# Altium integrated library AMP D Subminiature 050 Series.IntLib: 275 symbols (part 1 of 7)
Pins are listed as number, name and electrical type; pins without a type are passive.

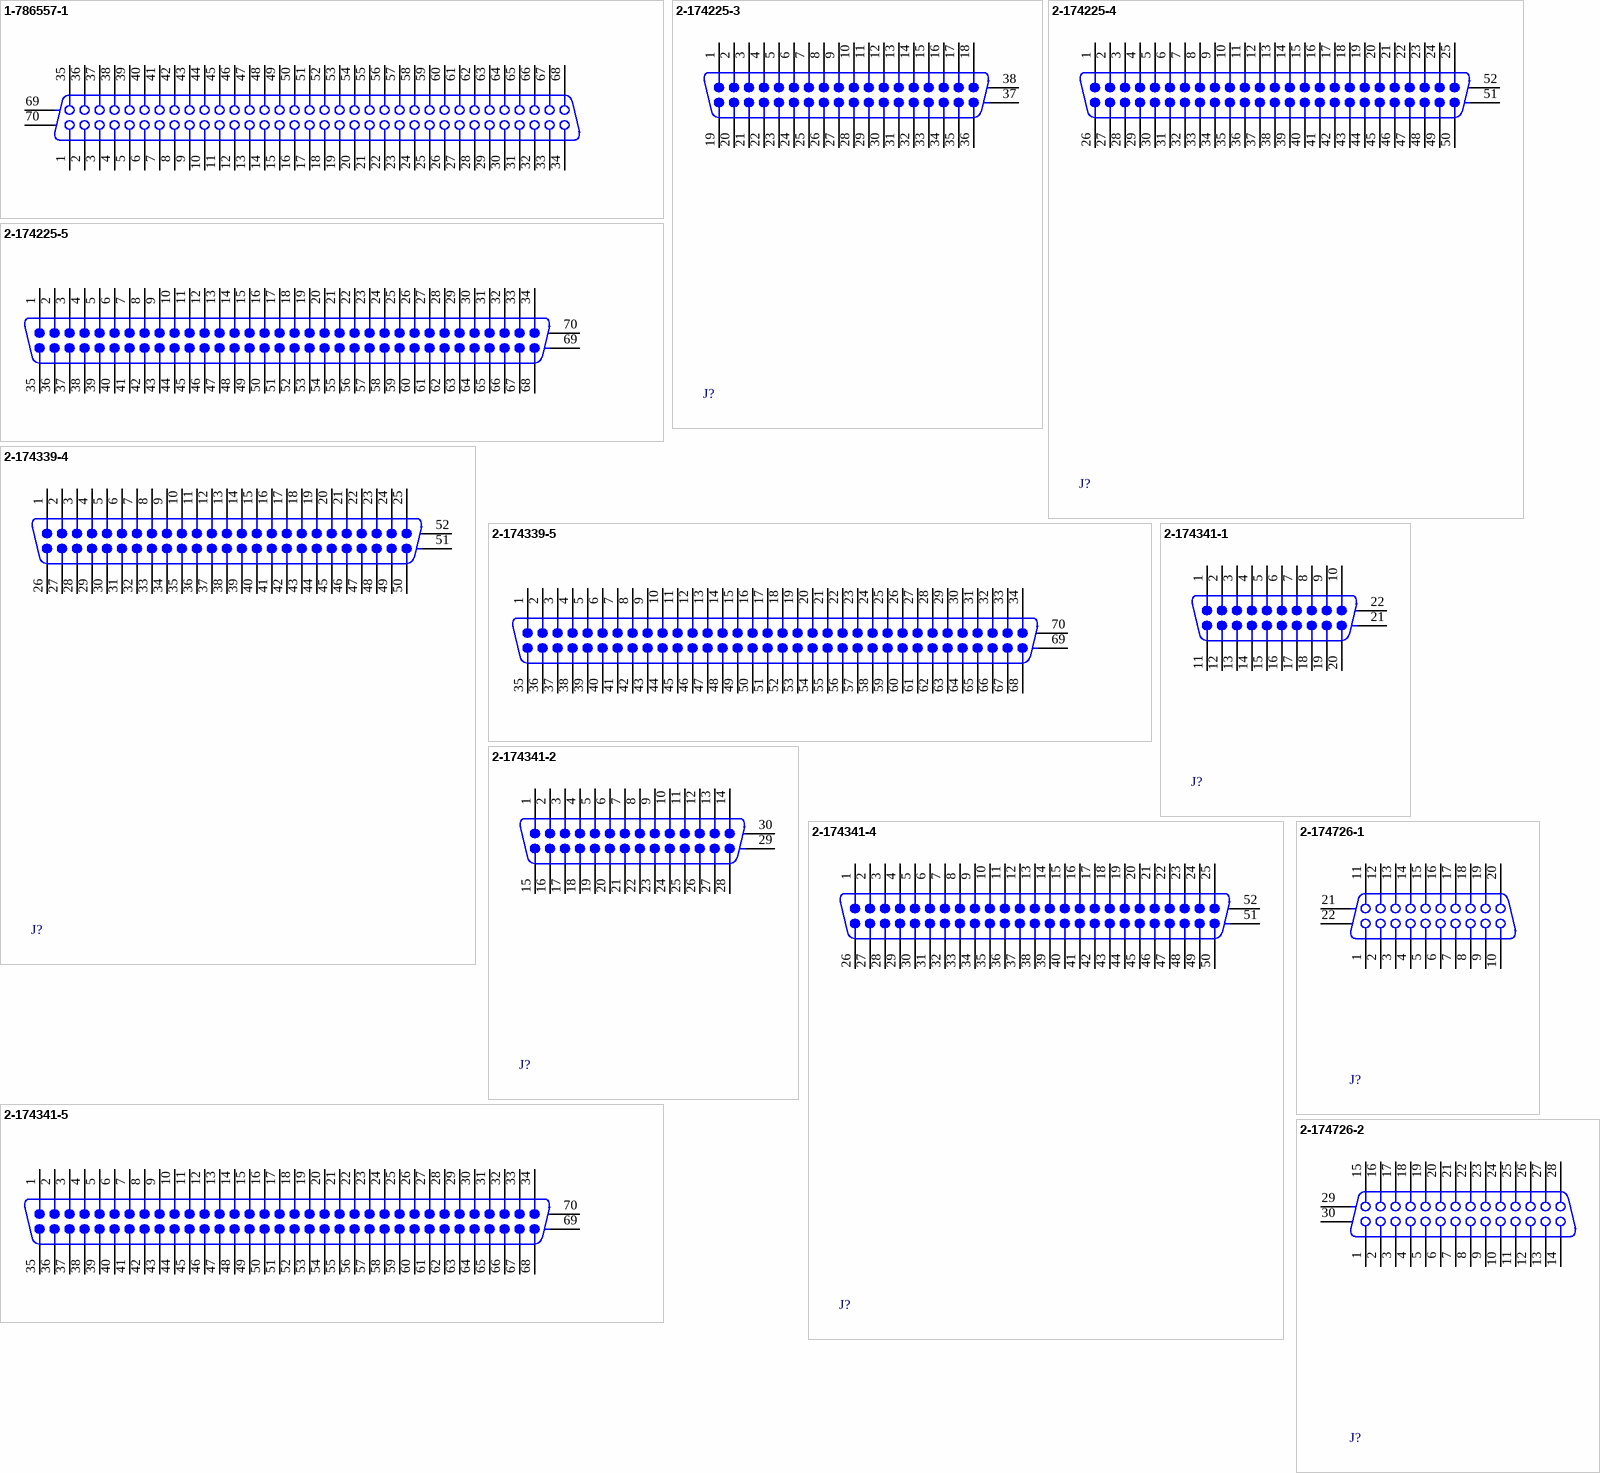
[diagram p0: symbols 1-786557-1 to 2-174726-2]

## 1-786557-1
designator J?
Receptacle Assembly, Shielded, Vertical, Flat top, Action Pin for .125 to .200 Thick Bd, AMPLIMITE; Positions: 68; Note: Series III; Gender: Receptacle Header; Note: With Mating Lock; PCB_Layout: Complies with manufacturer's recommendation.; DrillSize: Corresponds to nominal value.; Published: 17-Jul-2002; DatasheetDocument: 13-Jan-2000; PackageDocument: 13-Jan-2000; PackageReference: 1-786557-1; Publisher: Altium Limited; Orientation: Vertical; ComponentLink1Description: Manufacturer Link; ComponentLink1URL: http://www.tycoelectronics.com/; ComponentLink2Description: Packaging Specification; ComponentLink2URL: http://ecommas.tycoelectronics.com/commerce/DocumentDelivery/DDEController?Action=showdoc&DocId=Customer+Drawing%7F786557%7FK%7Fpdf%7FEnglish%7FENG_CD_786557_K.pdf
footprint 1-786557-1 (Connector; D Subminiature 050 Series; 68 Position; Vertical)
signal-integrity model D Subminiature
pins: 1, 2, 3, 4, 5, 6, 7, 8, 9, 10, 11, 12, 13, 14, 15, 16, 17, 18, 19, 20, 21, 22, 23, 24, 25, 26, 27, 28, 29, 30, 31, 32, 33, 34, 35, 36, 37, 38, 39, 40, 41, 42, 43, 44, 45, 46, 47, 48, 49, 50, 51, 52, 53, 54, 55, 56, 57, 58, 59, 60, 61, 62, 63, 64, 65, 66, 67, 68, 69 MH1, 70 MH2

## 2-174225-3
designator J?
Cap Header, Right Angle /M2.5 AMPLIMITE 050 Series II; Positions: 36; Gender: Plug Header; Note: With Mating Lock; PCB_Layout: Complies with manufacturer's recommendation.; DrillSize: Corresponds to nominal value.; Published: 17-Jul-2002; DatasheetDocument: May-1991; PackageDocument: 23-May-1991; PackageReference: 2-174225-3; Publisher: Altium Limited; Orientation: Right Angle; Note: Series II; ComponentLink1Description: Manufacturer Link; ComponentLink1URL: http://www.tycoelectronics.com/; ComponentLink2Description: Packaging Specification; ComponentLink2URL: http://ecommas.tycoelectronics.com/commerce/DocumentDelivery/DDEController?Action=showdoc&DocId=Customer+Drawing%7F174225%7FD%7Fpdf%7FJapanese%7FJPN_CD_174225_D.pdf; ComponentLink3Description: Iges Model; ComponentLink3URL: http://catalog.tycoelectronics.com/TE/docs/cadgeo/0/91/40190.tar.gz
footprint 2-174225-3 (Connector; D Subminiature 050 Series; 36 Position; Right Angle)
signal-integrity model D Subminiature
pins: 1, 2, 3, 4, 5, 6, 7, 8, 9, 10, 11, 12, 13, 14, 15, 16, 17, 18, 19, 20, 21, 22, 23, 24, 25, 26, 27, 28, 29, 30, 31, 32, 33, 34, 35, 36, 37 MH1, 38 MH2

## 2-174225-4
designator J?
Cap Header, Right Angle /M2.5 AMPLIMITE 050 Series II; Positions: 50; Gender: Plug Header; Note: With Mating Lock; PCB_Layout: Complies with manufacturer's recommendation.; DrillSize: Corresponds to nominal value.; Published: 17-Jul-2002; DatasheetDocument: May-1991; PackageDocument: 23-May-1991; PackageReference: 2-174225-4; Publisher: Altium Limited; Orientation: Right Angle; Note: Series II; ComponentLink1Description: Manufacturer Link; ComponentLink1URL: http://www.tycoelectronics.com/; ComponentLink2Description: Packaging Specification; ComponentLink2URL: http://ecommas.tycoelectronics.com/commerce/DocumentDelivery/DDEController?Action=showdoc&DocId=Customer+Drawing%7F174225%7FD%7Fpdf%7FJapanese%7FJPN_CD_174225_D.pdf; ComponentLink3Description: Iges Model; ComponentLink3URL: http://catalog.tycoelectronics.com/TE/docs/cadgeo/0/91/40190.tar.gz
footprint 2-174225-4 (Connector; D Subminiature 050 Series; 50 Position; Right Angle)
signal-integrity model D Subminiature
pins: 1, 2, 3, 4, 5, 6, 7, 8, 9, 10, 11, 12, 13, 14, 15, 16, 17, 18, 19, 20, 21, 22, 23, 24, 25, 26, 27, 28, 29, 30, 31, 32, 33, 34, 35, 36, 37, 38, 39, 40, 41, 42, 43, 44, 45, 46, 47, 48, 49, 50, 51 MH1, 52 MH2

## 2-174225-5
designator J?
Cap Header, Right Angle /M2.5 AMPLIMITE 050 Series II; Positions: 68; Gender: Plug Header; Note: With Mating Lock; PCB_Layout: Complies with manufacturer's recommendation.; DrillSize: Corresponds to nominal value.; Published: 17-Jul-2002; DatasheetDocument: May-1991; PackageDocument: 23-May-1991; PackageReference: 2-174225-5; Publisher: Altium Limited; Orientation: Right Angle; Note: Series II; ComponentLink1Description: Manufacturer Link; ComponentLink1URL: http://www.tycoelectronics.com/; ComponentLink2Description: Packaging Specification; ComponentLink2URL: http://ecommas.tycoelectronics.com/commerce/DocumentDelivery/DDEController?Action=showdoc&DocId=Customer+Drawing%7F174225%7FD%7Fpdf%7FJapanese%7FJPN_CD_174225_D.pdf; ComponentLink3Description: Iges Model; ComponentLink3URL: http://catalog.tycoelectronics.com/TE/docs/cadgeo/0/91/40190.tar.gz
footprint 2-174225-5 (Connector; D Subminiature 050 Series; 68 Position; Right Angle)
signal-integrity model D Subminiature
pins: 1, 2, 3, 4, 5, 6, 7, 8, 9, 10, 11, 12, 13, 14, 15, 16, 17, 18, 19, 20, 21, 22, 23, 24, 25, 26, 27, 28, 29, 30, 31, 32, 33, 34, 35, 36, 37, 38, 39, 40, 41, 42, 43, 44, 45, 46, 47, 48, 49, 50, 51, 52, 53, 54, 55, 56, 57, 58, 59, 60, 61, 62, 63, 64, 65, 66, 67, 68, 69 MH1, 70 MH2

## 2-174339-4
designator J?
Cap Header, Vertical /M2.5 AMPLIMITE 050 Series II; Positions: 50; Gender: Plug Header; Note: Without Mating Lock; PCB_Layout: Complies with manufacturer's recommendation.; DrillSize: Corresponds to nominal value.; Published: 17-Jul-2002; LatestRevisionDate: 21-Nov-2002; LatestRevisionNote: PCB Footprint sequence changed.; DatasheetDocument: May-1991; PackageDocument: 23-May-1991; PackageReference: 2-174339-4; Publisher: Altium Limited; Orientation: Vertical; Note: Series II; ComponentLink1Description: Manufacturer Link; ComponentLink1URL: http://www.tycoelectronics.com/; ComponentLink2Description: Packaging Specification; ComponentLink2URL: http://ecommas.tycoelectronics.com/commerce/DocumentDelivery/DDEController?Action=showdoc&DocId=Customer+Drawing%7F174339%7FC%7Fpdf%7FEnglish%7FENG_CD_174339_C.pdf; ComponentLink3Description: Iges Model; ComponentLink3URL: http://catalog.tycoelectronics.com/TE/docs/cadgeo/2/45/35542.tar.gz
footprint 2-174339-4 (Connector; D Subminiature 050 Series; 50 Position; Vertical)
signal-integrity model D Subminiature
pins: 1, 2, 3, 4, 5, 6, 7, 8, 9, 10, 11, 12, 13, 14, 15, 16, 17, 18, 19, 20, 21, 22, 23, 24, 25, 26, 27, 28, 29, 30, 31, 32, 33, 34, 35, 36, 37, 38, 39, 40, 41, 42, 43, 44, 45, 46, 47, 48, 49, 50, 51 MH1, 52 MH2

## 2-174339-5
designator J?
Cap Header, Vertical /M2.5 AMPLIMITE 050 Series II; Positions: 68; Gender: Plug Header; Note: Without Mating Lock; PCB_Layout: Complies with manufacturer's recommendation.; DrillSize: Corresponds to nominal value.; Published: 17-Jul-2002; LatestRevisionDate: 21-Nov-2002; LatestRevisionNote: PCB Footprint sequence changed.; DatasheetDocument: May-1991; PackageDocument: 23-May-1991; PackageReference: 2-174339-5; Publisher: Altium Limited; Orientation: Vertical; Note: Series II; ComponentLink1Description: Manufacturer Link; ComponentLink1URL: http://www.tycoelectronics.com/; ComponentLink2Description: Packaging Specification; ComponentLink2URL: http://ecommas.tycoelectronics.com/commerce/DocumentDelivery/DDEController?Action=showdoc&DocId=Customer+Drawing%7F174339%7FC%7Fpdf%7FEnglish%7FENG_CD_174339_C.pdf; ComponentLink3Description: Iges Model; ComponentLink3URL: http://catalog.tycoelectronics.com/TE/docs/cadgeo/2/45/35542.tar.gz
footprint 2-174339-5 (Connector; D Subminiature 050 Series; 68 Position; Vertical)
signal-integrity model D Subminiature
pins: 1, 2, 3, 4, 5, 6, 7, 8, 9, 10, 11, 12, 13, 14, 15, 16, 17, 18, 19, 20, 21, 22, 23, 24, 25, 26, 27, 28, 29, 30, 31, 32, 33, 34, 35, 36, 37, 38, 39, 40, 41, 42, 43, 44, 45, 46, 47, 48, 49, 50, 51, 52, 53, 54, 55, 56, 57, 58, 59, 60, 61, 62, 63, 64, 65, 66, 67, 68, 69 MH1, 70 MH2

## 2-174341-1
designator J?
Position Header, Horizontal, with Retention Leg AMPLIMITE 050 Series Il Connector. Type B; Positions: 20; Note: Series II; Gender: Plug Header; Note: With Mating Lock; PCB_Layout: Complies with manufacturer's recommendation.; DrillSize: Corresponds to nominal value.; Published: 17-Jul-2002; DatasheetDocument: May-1991; PackageDocument: 23-May-1991; PackageReference: 2-174341-1; Publisher: Altium Limited; Orientation: Right Angle; ComponentLink1Description: Manufacturer Link; ComponentLink1URL: http://www.tycoelectronics.com/; ComponentLink2Description: Packaging Specification; ComponentLink2URL: http://ecommas.tycoelectronics.com/commerce/DocumentDelivery/DDEController?Action=ecatdrawselcritrslt&Part=174341-1
footprint 2-174341-1 (Connector; D Subminiature 050 Series; 20 Position; Right Angle)
signal-integrity model D Subminiature
pins: 1, 2, 3, 4, 5, 6, 7, 8, 9, 10, 11, 12, 13, 14, 15, 16, 17, 18, 19, 20, 21 MH1, 22 MH2

## 2-174341-2
designator J?
Position Header, Horizontal, with Retention Leg AMPLIMITE 050 Series Il Connector. Type B; Positions: 28; Note: Series II; Gender: Plug Header; Note: With Mating Lock; PCB_Layout: Complies with manufacturer's recommendation.; DrillSize: Corresponds to nominal value.; Published: 17-Jul-2002; DatasheetDocument: May-1991; PackageDocument: 23-May-1991; PackageReference: 2-174341-2; Publisher: Altium Limited; Orientation: Right Angle; ComponentLink1Description: Manufacturer Link; ComponentLink1URL: http://www.tycoelectronics.com/; ComponentLink2Description: Packaging Specification; ComponentLink2URL: http://ecommas.tycoelectronics.com/commerce/DocumentDelivery/DDEController?Action=ecatdrawselcritrslt&Part=174341-1
footprint 2-174341-2 (Connector; D Subminiature 050 Series; 28 Position; Right Angle)
signal-integrity model D Subminiature
pins: 1, 2, 3, 4, 5, 6, 7, 8, 9, 10, 11, 12, 13, 14, 15, 16, 17, 18, 19, 20, 21, 22, 23, 24, 25, 26, 27, 28, 29 MH1, 30 MH2

## 2-174341-4
designator J?
Position Header, Horizontal, with Retention Leg AMPLIMITE 050 Series Il Connector. Type B; Positions: 50; Note: Series II; Gender: Plug Header; Note: With Mating Lock; PCB_Layout: Complies with manufacturer's recommendation.; DrillSize: Corresponds to nominal value.; Published: 17-Jul-2002; DatasheetDocument: May-1991; PackageDocument: 23-May-1991; PackageReference: 2-174341-4; Publisher: Altium Limited; Orientation: Right Angle; ComponentLink1Description: Manufacturer Link; ComponentLink1URL: http://www.tycoelectronics.com/; ComponentLink2Description: Packaging Specification; ComponentLink2URL: http://ecommas.tycoelectronics.com/commerce/DocumentDelivery/DDEController?Action=ecatdrawselcritrslt&Part=174341-1
footprint 2-174341-4 (Connector; D Subminiature 050 Series; 50 Position; Right Angle)
signal-integrity model D Subminiature
pins: 1, 2, 3, 4, 5, 6, 7, 8, 9, 10, 11, 12, 13, 14, 15, 16, 17, 18, 19, 20, 21, 22, 23, 24, 25, 26, 27, 28, 29, 30, 31, 32, 33, 34, 35, 36, 37, 38, 39, 40, 41, 42, 43, 44, 45, 46, 47, 48, 49, 50, 51 MH1, 52 MH2

## 2-174341-5
designator J?
Position Header, Horizontal, with Retention Leg AMPLIMITE 050 Series Il Connector. Type B; Positions: 68; Note: Series II; Gender: Plug Header; Note: With Mating Lock; PCB_Layout: Complies with manufacturer's recommendation.; DrillSize: Corresponds to nominal value.; Published: 17-Jul-2002; DatasheetDocument: May-1991; PackageDocument: 23-May-1991; PackageReference: 2-174341-5; Publisher: Altium Limited; Orientation: Right Angle; ComponentLink1Description: Manufacturer Link; ComponentLink1URL: http://www.tycoelectronics.com/; ComponentLink2Description: Packaging Specification; ComponentLink2URL: http://ecommas.tycoelectronics.com/commerce/DocumentDelivery/DDEController?Action=ecatdrawselcritrslt&Part=174341-1
footprint 2-174341-5 (Connector; D Subminiature 050 Series; 68 Position; Right Angle)
signal-integrity model D Subminiature
pins: 1, 2, 3, 4, 5, 6, 7, 8, 9, 10, 11, 12, 13, 14, 15, 16, 17, 18, 19, 20, 21, 22, 23, 24, 25, 26, 27, 28, 29, 30, 31, 32, 33, 34, 35, 36, 37, 38, 39, 40, 41, 42, 43, 44, 45, 46, 47, 48, 49, 50, 51, 52, 53, 54, 55, 56, 57, 58, 59, 60, 61, 62, 63, 64, 65, 66, 67, 68, 69 MH1, 70 MH2

## 2-174726-1
designator J?
Plug Header, Horizontal/M2.5 AMPLIMITE 050 Series Il Connector, Type A; Positions: 20; Note: Series II; Gender: Receptacle Header; Note: Without Mating Lock; PCB_Layout: Complies with manufacturer's recommendation.; DrillSize: Corresponds to nominal value.; ComponentAvailability: Obsolete; Published: 17-Jul-2002; DatasheetDocument: 19-Sep-1994; PackageDocument: 19-Sep-1994; PackageReference: 2-174726-1; Publisher: Altium Limited; Orientation: Right Angle; ComponentLink1Description: Manufacturer Link; ComponentLink1URL: http://www.tycoelectronics.com/; ComponentLink2Description: Packaging Specification; ComponentLink2URL: http://ecommas.tycoelectronics.com/commerce/DocumentDelivery/DDEController?Action=showdoc&DocId=Customer+Drawing%7F174726%7FH%7Ftif%7FJapanese%7FJPN_CD_174726_H.tif
footprint 2-174726-1 (Connector; D Subminiature 050 Series; 20 Position; Right Angle)
signal-integrity model D Subminiature
pins: 1, 2, 3, 4, 5, 6, 7, 8, 9, 10, 11, 12, 13, 14, 15, 16, 17, 18, 19, 20, 21 MH1, 22 MH2

## 2-174726-2
designator J?
Plug Header, Horizontal/M2.5 AMPLIMITE 050 Series Il Connector, Type A; Positions: 28; Note: Series II; Gender: Receptacle Header; Note: Without Mating Lock; PCB_Layout: Complies with manufacturer's recommendation.; DrillSize: Corresponds to nominal value.; ComponentAvailability: Obsolete; Published: 17-Jul-2002; DatasheetDocument: 19-Sep-1994; PackageDocument: 19-Sep-1994; PackageReference: 2-174726-2; Publisher: Altium Limited; Orientation: Right Angle; ComponentLink1Description: Manufacturer Link; ComponentLink1URL: http://www.tycoelectronics.com/; ComponentLink2Description: Packaging Specification; ComponentLink2URL: http://ecommas.tycoelectronics.com/commerce/DocumentDelivery/DDEController?Action=showdoc&DocId=Customer+Drawing%7F174726%7FH%7Ftif%7FJapanese%7FJPN_CD_174726_H.tif
footprint 2-174726-2 (Connector; D Subminiature 050 Series; 28 Position; Right Angle)
signal-integrity model D Subminiature
pins: 1, 2, 3, 4, 5, 6, 7, 8, 9, 10, 11, 12, 13, 14, 15, 16, 17, 18, 19, 20, 21, 22, 23, 24, 25, 26, 27, 28, 29 MH1, 30 MH2

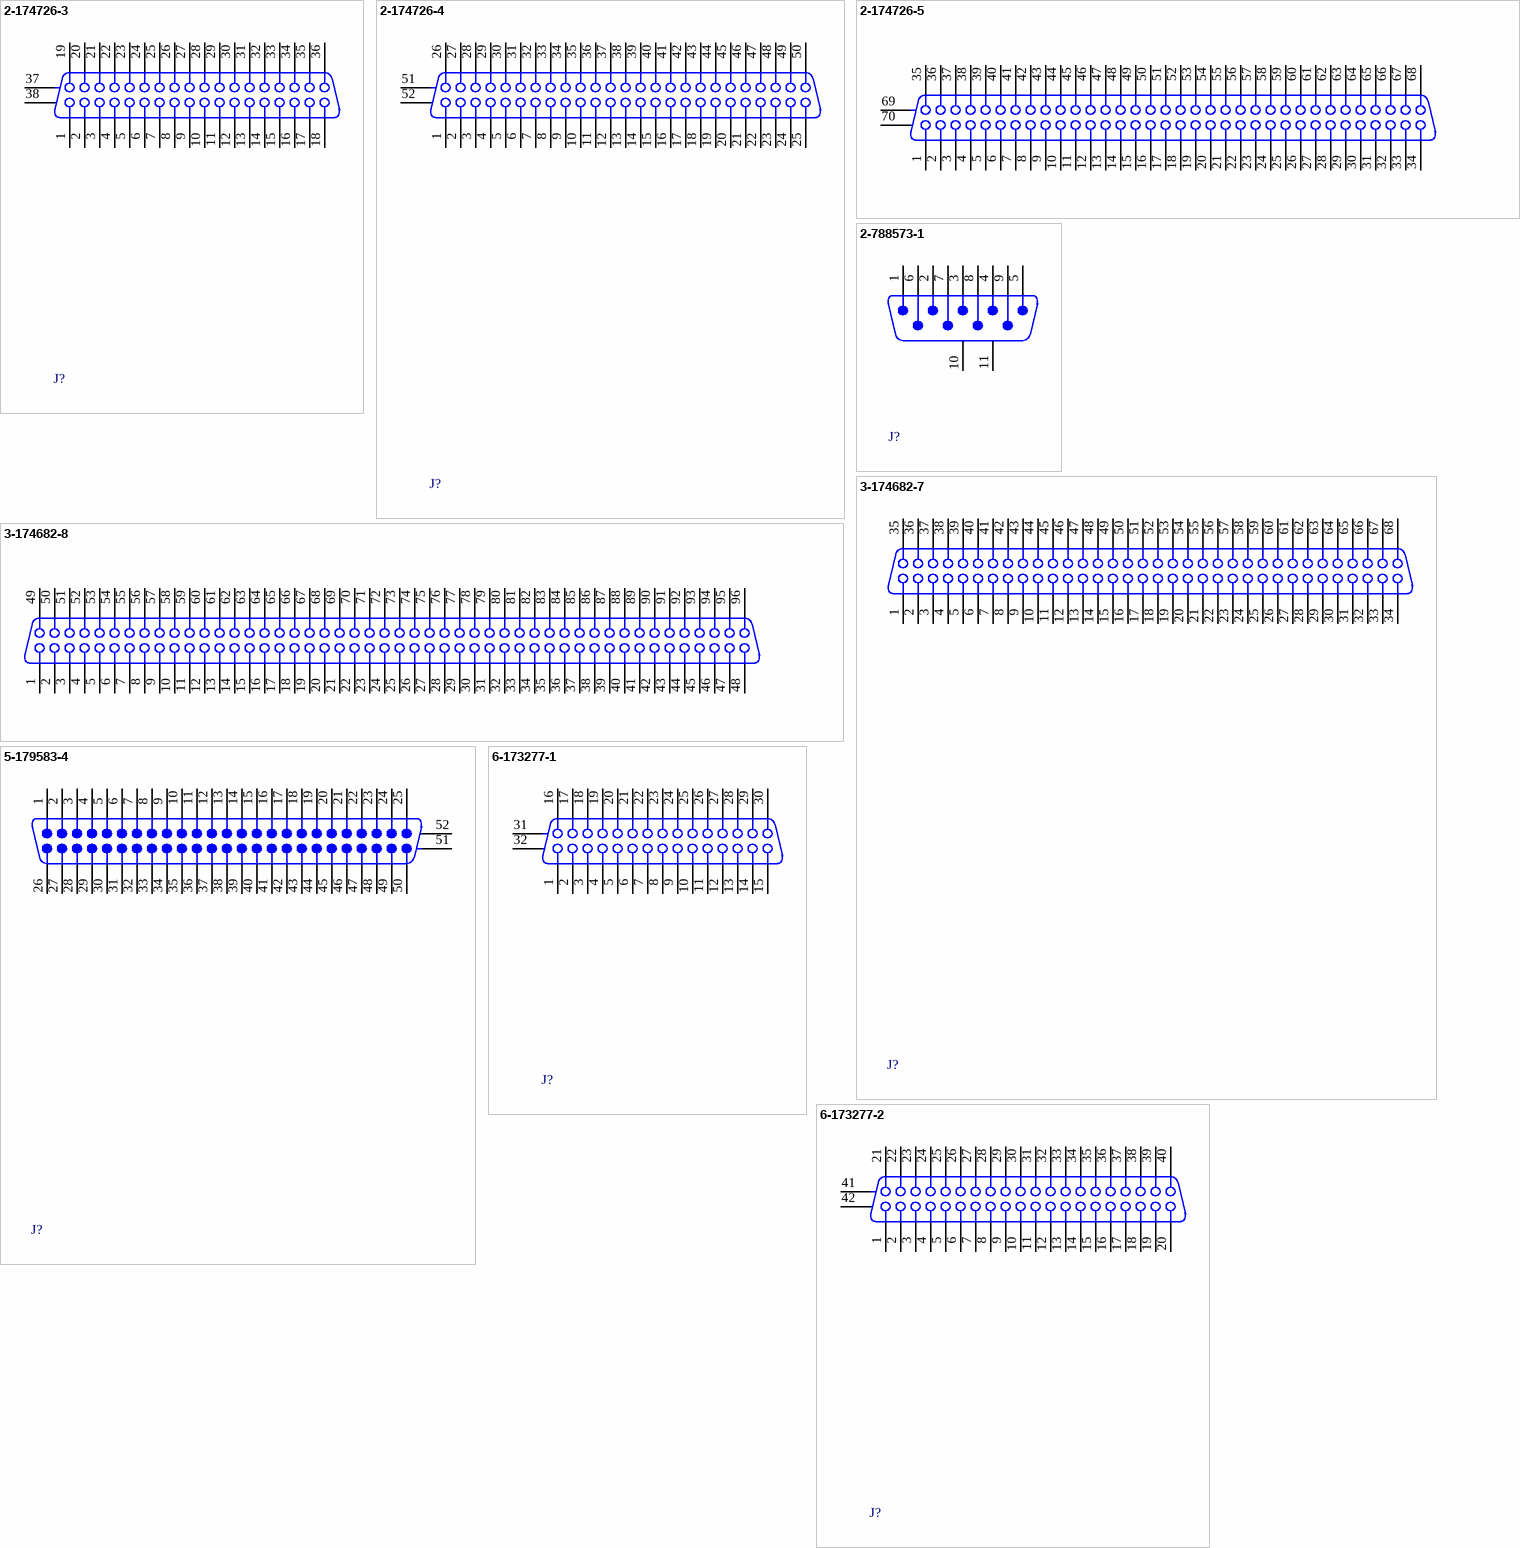
[diagram p1: symbols 2-174726-3 to 6-173277-2]

## 2-174726-3
designator J?
Plug Header, Horizontal/M2.5 AMPLIMITE 050 Series Il Connector, Type A; Positions: 36; Note: Series II; Gender: Receptacle Header; Note: Without Mating Lock; PCB_Layout: Complies with manufacturer's recommendation.; DrillSize: Corresponds to nominal value.; ComponentAvailability: Obsolete; Published: 17-Jul-2002; DatasheetDocument: 19-Sep-1994; PackageDocument: 19-Sep-1994; PackageReference: 2-174726-3; Publisher: Altium Limited; Orientation: Right Angle; ComponentLink1Description: Manufacturer Link; ComponentLink1URL: http://www.tycoelectronics.com/; ComponentLink2Description: Packaging Specification; ComponentLink2URL: http://ecommas.tycoelectronics.com/commerce/DocumentDelivery/DDEController?Action=showdoc&DocId=Customer+Drawing%7F174726%7FH%7Ftif%7FJapanese%7FJPN_CD_174726_H.tif
footprint 2-174726-3 (Connector; D Subminiature 050 Series; 36 Position; Right Angle)
signal-integrity model D Subminiature
pins: 1, 2, 3, 4, 5, 6, 7, 8, 9, 10, 11, 12, 13, 14, 15, 16, 17, 18, 19, 20, 21, 22, 23, 24, 25, 26, 27, 28, 29, 30, 31, 32, 33, 34, 35, 36, 37 MH1, 38 MH2

## 2-174726-4
designator J?
Plug Header, Horizontal/M2.5 AMPLIMITE 050 Series Il Connector, Type A; Positions: 50; Note: Series II; Gender: Receptacle Header; Note: Without Mating Lock; PCB_Layout: Complies with manufacturer's recommendation.; DrillSize: Corresponds to nominal value.; ComponentAvailability: Obsolete; Published: 17-Jul-2002; DatasheetDocument: 19-Sep-1994; PackageDocument: 19-Sep-1994; PackageReference: 2-174726-4; Publisher: Altium Limited; Orientation: Right Angle; ComponentLink1Description: Manufacturer Link; ComponentLink1URL: http://www.tycoelectronics.com/; ComponentLink2Description: Packaging Specification; ComponentLink2URL: http://ecommas.tycoelectronics.com/commerce/DocumentDelivery/DDEController?Action=showdoc&DocId=Customer+Drawing%7F174726%7FH%7Ftif%7FJapanese%7FJPN_CD_174726_H.tif
footprint 2-174726-4 (Connector; D Subminiature 050 Series; 50 Position; Right Angle)
signal-integrity model D Subminiature
pins: 1, 2, 3, 4, 5, 6, 7, 8, 9, 10, 11, 12, 13, 14, 15, 16, 17, 18, 19, 20, 21, 22, 23, 24, 25, 26, 27, 28, 29, 30, 31, 32, 33, 34, 35, 36, 37, 38, 39, 40, 41, 42, 43, 44, 45, 46, 47, 48, 49, 50, 51 MH1, 52 MH2

## 2-174726-5
designator J?
Plug Header, Horizontal/M2.5 AMPLIMITE 050 Series Il Connector, Type A; Positions: 68; Note: Series II; Gender: Receptacle Header; Note: Without Mating Lock; PCB_Layout: Complies with manufacturer's recommendation.; DrillSize: Corresponds to nominal value.; ComponentAvailability: Obsolete; Published: 17-Jul-2002; DatasheetDocument: 19-Sep-1994; PackageDocument: 19-Sep-1994; PackageReference: 2-174726-5; Publisher: Altium Limited; Orientation: Right Angle; ComponentLink1Description: Manufacturer Link; ComponentLink1URL: http://www.tycoelectronics.com/; ComponentLink2Description: Packaging Specification; ComponentLink2URL: http://ecommas.tycoelectronics.com/commerce/DocumentDelivery/DDEController?Action=showdoc&DocId=Customer+Drawing%7F174726%7FH%7Ftif%7FJapanese%7FJPN_CD_174726_H.tif
footprint 2-174726-5 (Connector; D Subminiature 050 Series; 68 Position; Right Angle)
signal-integrity model D Subminiature
pins: 1, 2, 3, 4, 5, 6, 7, 8, 9, 10, 11, 12, 13, 14, 15, 16, 17, 18, 19, 20, 21, 22, 23, 24, 25, 26, 27, 28, 29, 30, 31, 32, 33, 34, 35, 36, 37, 38, 39, 40, 41, 42, 43, 44, 45, 46, 47, 48, 49, 50, 51, 52, 53, 54, 55, 56, 57, 58, 59, 60, 61, 62, 63, 64, 65, 66, 67, 68, 69 MH1, 70 MH2

## 2-788573-1
designator J?
Plug Assembly, Slim Line, 9 Position, AMPLIMITE; Positions: 9; Gender: Plug Header; Note: With Mating Lock; PCB_Layout: Complies with manufacturer's recommendation.; DrillSize: Corresponds to nominal value.; Published: 17-Jul-2002; LatestRevisionDate: 11-Oct-2004; LatestRevisionNote: Annual ring removed from one pair of mounting holes, representation of slot altered.; DatasheetDocument: 7-Oct-1999; PackageDocument: 07-Oct-1999; PackageReference: 2-788573-1; Publisher: Altium Limited; Orientation: Right Angle; Note: Slimline; ComponentLink1Description: Manufacturer Link; ComponentLink1URL: http://www.tycoelectronics.com/; ComponentLink2Description: Packaging Specification; ComponentLink2URL: http://ecommas.tycoelectronics.com/commerce/DocumentDelivery/DDEController?Action=showdoc&DocId=Customer+Drawing%7F788573%7FC%7Fpdf%7FEnglish%7FENG_CD_788573_C.pdf; ComponentLink3Description: Iges Model; ComponentLink3URL: http://catalog.tycoelectronics.com/TE/docs/cadgeo/0/24/74420.tar.gz
footprint 2-788573-1 (Connector; D Subminiature 050 Series; 9 Position; Right Angle)
signal-integrity model D Subminiature
pins: 1, 2, 3, 4, 5, 6, 7, 8, 9, 10 MH1, 11 MH2

## 3-174682-7
designator J?
Plug Assembly, Horizontal with Kink; Positions: 68; Note: Series I; Gender: Receptacle Header; Note: Without Mating Lock; PCB_Layout: Complies with manufacturer's recommendation.; DrillSize: Corresponds to nominal value.; ComponentAvailability: Obsolete; Published: 17-Jul-2002; DatasheetDocument: 29-Mar-1991; PackageDocument: 29-Mar-1991; PackageReference: 3-174682-7; Publisher: Altium Limited; Orientation: Right Angle; ComponentLink1Description: Manufacturer Link; ComponentLink1URL: http://www.tycoelectronics.com/; ComponentLink2Description: Packaging Specification; ComponentLink2URL: http://ecommas.tycoelectronics.com/commerce/DocumentDelivery/DDEController?Action=showdoc&DocId=Customer+Drawing%7F174682%7FD%7Ftif%7FJapanese%7FJPN_CD_174682_D.tif
footprint 3-174682-7 (Connector; D Subminiature 050 Series; 68 Position; Right Angle)
signal-integrity model D Subminiature
pins: 1, 2, 3, 4, 5, 6, 7, 8, 9, 10, 11, 12, 13, 14, 15, 16, 17, 18, 19, 20, 21, 22, 23, 24, 25, 26, 27, 28, 29, 30, 31, 32, 33, 34, 35, 36, 37, 38, 39, 40, 41, 42, 43, 44, 45, 46, 47, 48, 49, 50, 51, 52, 53, 54, 55, 56, 57, 58, 59, 60, 61, 62, 63, 64, 65, 66, 67, 68

## 3-174682-8
designator J?
Plug Assembly, Horizontal with Kink; Positions: 96; Note: Series I; Gender: Receptacle Header; Note: Without Mating Lock; PCB_Layout: Complies with manufacturer's recommendation.; DrillSize: Corresponds to nominal value.; ComponentAvailability: Obsolete; Published: 17-Jul-2002; DatasheetDocument: 29-Mar-1991; PackageDocument: 29-Mar-1991; PackageReference: 3-174682-8; Publisher: Altium Limited; Orientation: Right Angle; ComponentLink1Description: Manufacturer Link; ComponentLink1URL: http://www.tycoelectronics.com/; ComponentLink2Description: Packaging Specification; ComponentLink2URL: http://ecommas.tycoelectronics.com/commerce/DocumentDelivery/DDEController?Action=showdoc&DocId=Customer+Drawing%7F174682%7FD%7Ftif%7FJapanese%7FJPN_CD_174682_D.tif
footprint 3-174682-8 (Connector; D Subminiature 050 Series; 96 Position; Right Angle)
signal-integrity model D Subminiature
pins: 1, 2, 3, 4, 5, 6, 7, 8, 9, 10, 11, 12, 13, 14, 15, 16, 17, 18, 19, 20, 21, 22, 23, 24, 25, 26, 27, 28, 29, 30, 31, 32, 33, 34, 35, 36, 37, 38, 39, 40, 41, 42, 43, 44, 45, 46, 47, 48, 49, 50, 51, 52, 53, 54, 55, 56, 57, 58, 59, 60, 61, 62, 63, 64, 65, 66, 67, 68, 69, 70, 71, 72, 73, 74, 75, 76, 77, 78, 79, 80, 81, 82, 83, 84, 85, 86, 87, 88, 89, 90, 91, 92, 93, 94, 95, 96

## 5-179583-4
designator J?
Plug Assembly, Shielded, Right Angle, AMPLIMITE, Retention Leg; Positions: 50; Note: Series II; Gender: Plug Header; Note: Without Mating Lock; PCB_Layout: Complies with manufacturer's recommendation.; DrillSize: Corresponds to nominal value.; Published: 17-Jul-2002; DatasheetDocument: Dec-1995; PackageDocument: Dec-1995; PackageReference: 5-179583-4; Publisher: Altium Limited; Orientation: Right Angle; ComponentLink1Description: Manufacturer Link; ComponentLink1URL: http://www.tycoelectronics.com/; ComponentLink2Description: Packaging Specification; ComponentLink2URL: http://ecommas.tycoelectronics.com/commerce/DocumentDelivery/DDEController?Action=showdoc&DocId=Customer+Drawing%7F179583%7FD%7Fpdf%7FEnglish%7FENG_CD_179583_D.pdf
footprint 5-179583-4 (Connector; D Subminiature 050 Series; 50 Position; Right Angle)
signal-integrity model D Subminiature
pins: 1, 2, 3, 4, 5, 6, 7, 8, 9, 10, 11, 12, 13, 14, 15, 16, 17, 18, 19, 20, 21, 22, 23, 24, 25, 26, 27, 28, 29, 30, 31, 32, 33, 34, 35, 36, 37, 38, 39, 40, 41, 42, 43, 44, 45, 46, 47, 48, 49, 50, 51 MH1, 52 MH2

## 6-173277-1
designator J?
Plug Assembly, Horizontal for AMPLIMITE I B-to-B Connector; Positions: 30; Note: Series I; Gender: Receptacle Header; Note: Without Mating Lock; PCB_Layout: Complies with manufacturer's recommendation.; DrillSize: Corresponds to nominal value.; Published: 17-Jul-2002; DatasheetDocument: Apr-1991; PackageDocument: Apr-1991; PackageReference: 6-173277-1; Publisher: Altium Limited; Orientation: Right Angle; ComponentLink1Description: Manufacturer Link; ComponentLink1URL: http://www.tycoelectronics.com/; ComponentLink2Description: Packaging Specification; ComponentLink2URL: http://ecommas.tycoelectronics.com/commerce/DocumentDelivery/DDEController?Action=showdoc&DocId=Customer+Drawing%7F173277%7FG%7Fpdf%7FEnglish%7FENG_CD_173277_G.pdf
footprint 6-173277-1 (Connector; D Subminiature 050 Series; 30 Position; Right Angle)
signal-integrity model D Subminiature
pins: 1, 2, 3, 4, 5, 6, 7, 8, 9, 10, 11, 12, 13, 14, 15, 16, 17, 18, 19, 20, 21, 22, 23, 24, 25, 26, 27, 28, 29, 30, 31 MH1, 32 MH2

## 6-173277-2
designator J?
Plug Assembly, Horizontal for AMPLIMITE I B-to-B Connector; Positions: 40; Note: Series I; Gender: Receptacle Header; Note: Without Mating Lock; PCB_Layout: Complies with manufacturer's recommendation.; DrillSize: Corresponds to nominal value.; Published: 17-Jul-2002; DatasheetDocument: Apr-1991; PackageDocument: Apr-1991; PackageReference: 6-173277-2; Publisher: Altium Limited; Orientation: Right Angle; ComponentLink1Description: Manufacturer Link; ComponentLink1URL: http://www.tycoelectronics.com/; ComponentLink2Description: Packaging Specification; ComponentLink2URL: http://ecommas.tycoelectronics.com/commerce/DocumentDelivery/DDEController?Action=showdoc&DocId=Customer+Drawing%7F173277%7FG%7Fpdf%7FEnglish%7FENG_CD_173277_G.pdf
footprint 6-173277-2 (Connector; D Subminiature 050 Series; 40 Position; Right Angle)
signal-integrity model D Subminiature
pins: 1, 2, 3, 4, 5, 6, 7, 8, 9, 10, 11, 12, 13, 14, 15, 16, 17, 18, 19, 20, 21, 22, 23, 24, 25, 26, 27, 28, 29, 30, 31, 32, 33, 34, 35, 36, 37, 38, 39, 40, 41 MH1, 42 MH2

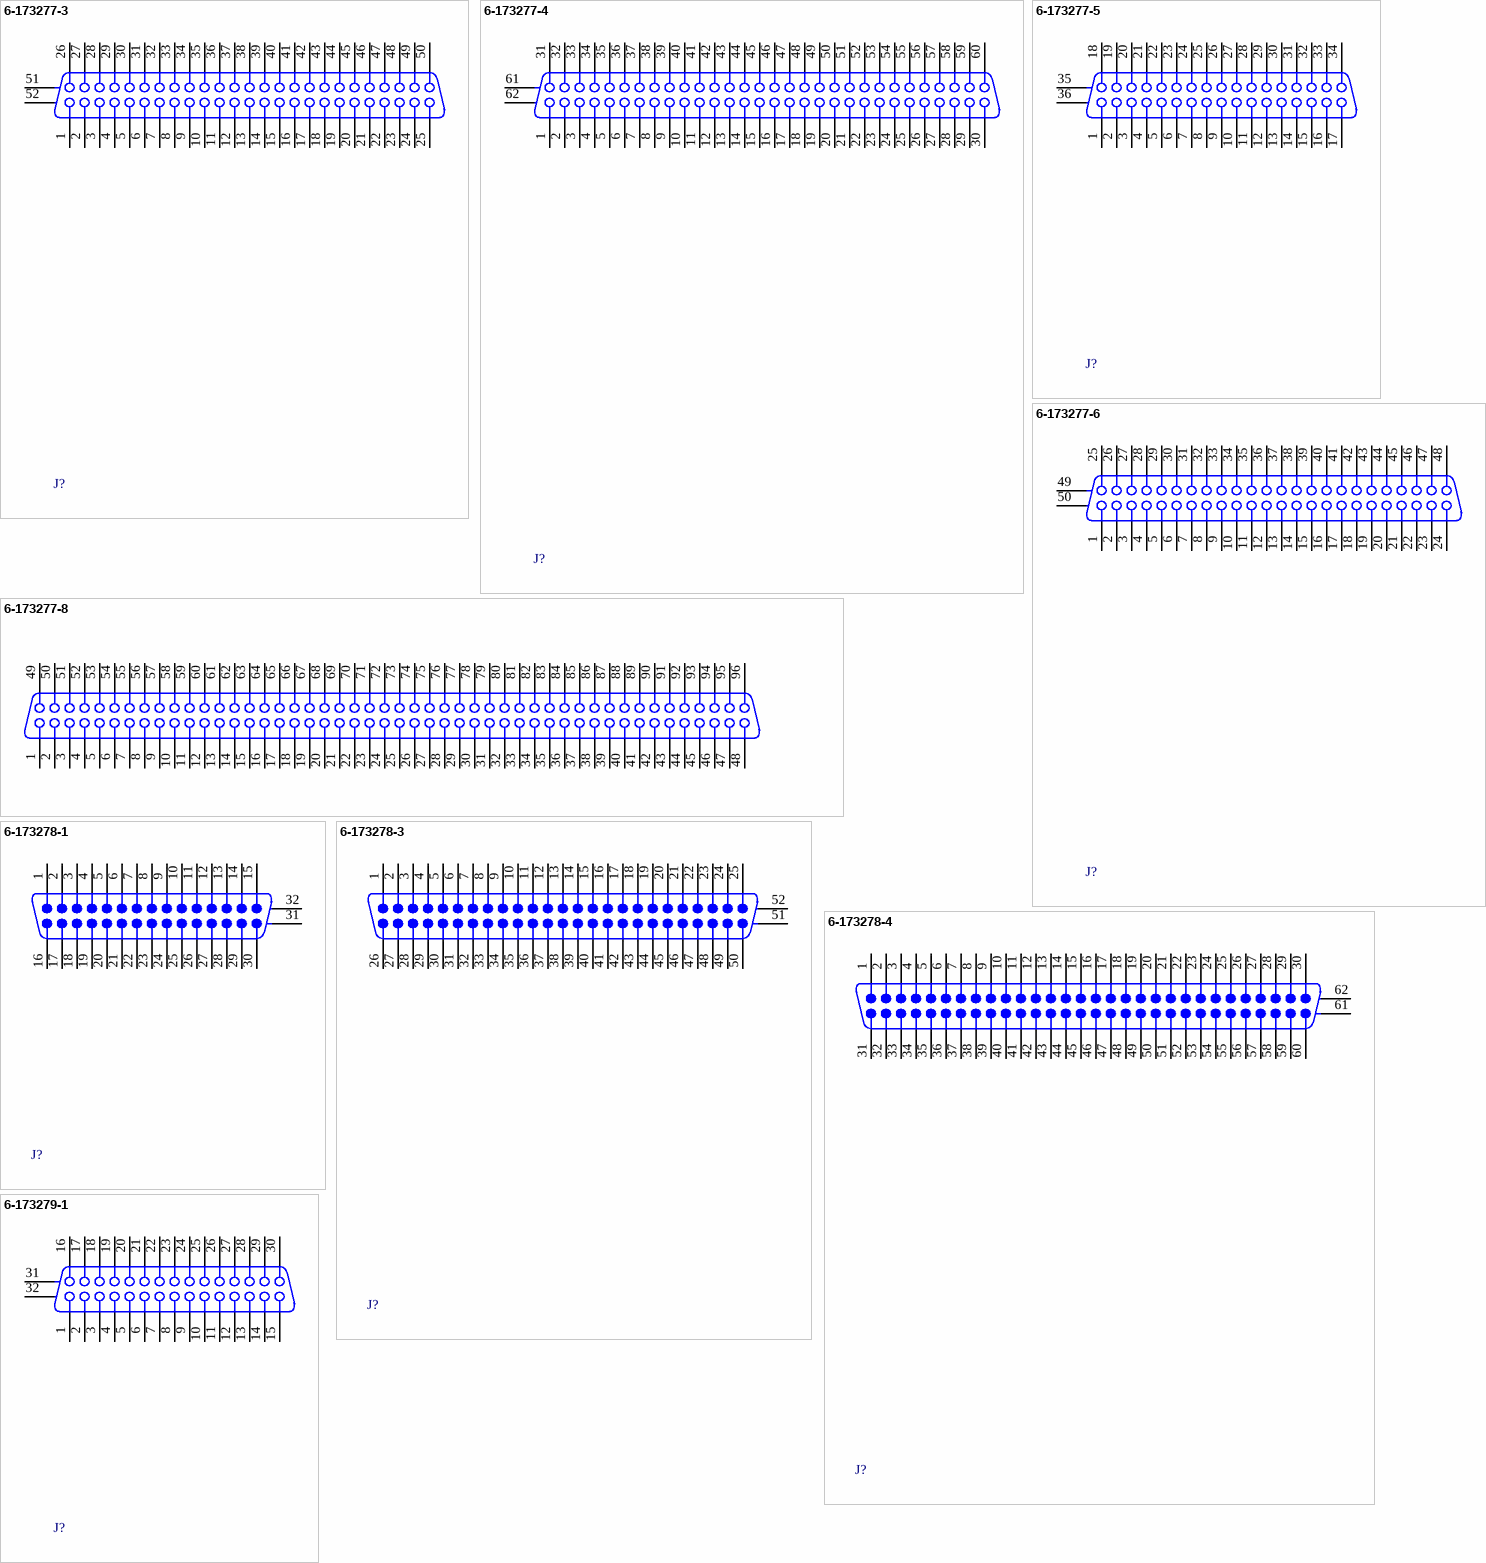
[diagram p2: symbols 6-173277-3 to 6-173279-1]

## 6-173277-3
designator J?
Plug Assembly, Horizontal for AMPLIMITE I B-to-B Connector; Positions: 50; Note: Series I; Gender: Receptacle Header; Note: Without Mating Lock; PCB_Layout: Complies with manufacturer's recommendation.; DrillSize: Corresponds to nominal value.; Published: 17-Jul-2002; DatasheetDocument: Apr-1991; PackageDocument: Apr-1991; PackageReference: 6-173277-3; Publisher: Altium Limited; Orientation: Right Angle; ComponentLink1Description: Manufacturer Link; ComponentLink1URL: http://www.tycoelectronics.com/; ComponentLink2Description: Packaging Specification; ComponentLink2URL: http://ecommas.tycoelectronics.com/commerce/DocumentDelivery/DDEController?Action=showdoc&DocId=Customer+Drawing%7F173277%7FG%7Fpdf%7FEnglish%7FENG_CD_173277_G.pdf
footprint 6-173277-3 (Connector; D Subminiature 050 Series; 50 Position; Right Angle)
signal-integrity model D Subminiature
pins: 1, 2, 3, 4, 5, 6, 7, 8, 9, 10, 11, 12, 13, 14, 15, 16, 17, 18, 19, 20, 21, 22, 23, 24, 25, 26, 27, 28, 29, 30, 31, 32, 33, 34, 35, 36, 37, 38, 39, 40, 41, 42, 43, 44, 45, 46, 47, 48, 49, 50, 51 MH1, 52 MH2

## 6-173277-4
designator J?
Plug Assembly, Horizontal for AMPLIMITE I B-to-B Connector; Positions: 60; Note: Series I; Gender: Receptacle Header; Note: Without Mating Lock; PCB_Layout: Complies with manufacturer's recommendation.; DrillSize: Corresponds to nominal value.; Published: 17-Jul-2002; DatasheetDocument: Apr-1991; PackageDocument: Apr-1991; PackageReference: 6-173277-4; Publisher: Altium Limited; Orientation: Right Angle; ComponentLink1Description: Manufacturer Link; ComponentLink1URL: http://www.tycoelectronics.com/; ComponentLink2Description: Packaging Specification; ComponentLink2URL: http://ecommas.tycoelectronics.com/commerce/DocumentDelivery/DDEController?Action=showdoc&DocId=Customer+Drawing%7F173277%7FG%7Fpdf%7FEnglish%7FENG_CD_173277_G.pdf
footprint 6-173277-4 (Connector; D Subminiature 050 Series; 60 Position; Right Angle)
signal-integrity model D Subminiature
pins: 1, 2, 3, 4, 5, 6, 7, 8, 9, 10, 11, 12, 13, 14, 15, 16, 17, 18, 19, 20, 21, 22, 23, 24, 25, 26, 27, 28, 29, 30, 31, 32, 33, 34, 35, 36, 37, 38, 39, 40, 41, 42, 43, 44, 45, 46, 47, 48, 49, 50, 51, 52, 53, 54, 55, 56, 57, 58, 59, 60, 61 MH1, 62 MH2

## 6-173277-5
designator J?
Plug Assembly, Horizontal for AMPLIMITE I B-to-B Connector; Positions: 34; Note: Series I; Gender: Receptacle Header; Note: Without Mating Lock; PCB_Layout: Complies with manufacturer's recommendation.; DrillSize: Corresponds to nominal value.; Published: 17-Jul-2002; DatasheetDocument: Apr-1991; PackageDocument: Apr-1991; PackageReference: 6-173277-5; Publisher: Altium Limited; Orientation: Right Angle; ComponentLink1Description: Manufacturer Link; ComponentLink1URL: http://www.tycoelectronics.com/; ComponentLink2Description: Packaging Specification; ComponentLink2URL: http://ecommas.tycoelectronics.com/commerce/DocumentDelivery/DDEController?Action=showdoc&DocId=Customer+Drawing%7F173277%7FG%7Fpdf%7FEnglish%7FENG_CD_173277_G.pdf
footprint 6-173277-5 (Connector; D Subminiature 050 Series; 34 Position; Right Angle)
signal-integrity model D Subminiature
pins: 1, 2, 3, 4, 5, 6, 7, 8, 9, 10, 11, 12, 13, 14, 15, 16, 17, 18, 19, 20, 21, 22, 23, 24, 25, 26, 27, 28, 29, 30, 31, 32, 33, 34, 35 MH1, 36 MH2

## 6-173277-6
designator J?
Plug Assembly, Horizontal for AMPLIMITE I B-to-B Connector; Positions: 48; Note: Series I; Gender: Receptacle Header; Note: Without Mating Lock; PCB_Layout: Complies with manufacturer's recommendation.; DrillSize: Corresponds to nominal value.; Published: 17-Jul-2002; DatasheetDocument: Apr-1991; PackageDocument: Apr-1991; PackageReference: 6-173277-6; Publisher: Altium Limited; Orientation: Right Angle; ComponentLink1Description: Manufacturer Link; ComponentLink1URL: http://www.tycoelectronics.com/; ComponentLink2Description: Packaging Specification; ComponentLink2URL: http://ecommas.tycoelectronics.com/commerce/DocumentDelivery/DDEController?Action=showdoc&DocId=Customer+Drawing%7F173277%7FG%7Fpdf%7FEnglish%7FENG_CD_173277_G.pdf
footprint 6-173277-6 (Connector; D Subminiature 050 Series; 48 Position; Right Angle)
signal-integrity model D Subminiature
pins: 1, 2, 3, 4, 5, 6, 7, 8, 9, 10, 11, 12, 13, 14, 15, 16, 17, 18, 19, 20, 21, 22, 23, 24, 25, 26, 27, 28, 29, 30, 31, 32, 33, 34, 35, 36, 37, 38, 39, 40, 41, 42, 43, 44, 45, 46, 47, 48, 49 MH1, 50 MH2

## 6-173277-8
designator J?
Plug Assembly, Horizontal for AMPLIMITE I B-to-B Connector; Positions: 96; Note: Series I; Gender: Receptacle Header; Note: Without Mating Lock; PCB_Layout: Complies with manufacturer's recommendation.; DrillSize: Corresponds to nominal value.; Published: 17-Jul-2002; DatasheetDocument: Apr-1991; PackageDocument: Apr-1991; PackageReference: 6-173277-8; Publisher: Altium Limited; Orientation: Right Angle; ComponentLink1Description: Manufacturer Link; ComponentLink1URL: http://www.tycoelectronics.com/; ComponentLink2Description: Packaging Specification; ComponentLink2URL: http://ecommas.tycoelectronics.com/commerce/DocumentDelivery/DDEController?Action=showdoc&DocId=Customer+Drawing%7F173277%7FG%7Fpdf%7FEnglish%7FENG_CD_173277_G.pdf
footprint 6-173277-8 (Connector; D Subminiature 050 Series; 96 Position; Right Angle)
signal-integrity model D Subminiature
pins: 1, 2, 3, 4, 5, 6, 7, 8, 9, 10, 11, 12, 13, 14, 15, 16, 17, 18, 19, 20, 21, 22, 23, 24, 25, 26, 27, 28, 29, 30, 31, 32, 33, 34, 35, 36, 37, 38, 39, 40, 41, 42, 43, 44, 45, 46, 47, 48, 49, 50, 51, 52, 53, 54, 55, 56, 57, 58, 59, 60, 61, 62, 63, 64, 65, 66, 67, 68, 69, 70, 71, 72, 73, 74, 75, 76, 77, 78, 79, 80, 81, 82, 83, 84, 85, 86, 87, 88, 89, 90, 91, 92, 93, 94, 95, 96

## 6-173278-1
designator J?
Cap Assembly, (Horizontal without Leg) AMPLIMITE I B-to-B Connector; Positions: 30; Note: Series I; Gender: Plug Header; Note: Without Mating Lock; PCB_Layout: Complies with manufacturer's recommendation.; DrillSize: Corresponds to nominal value.; Published: 17-Jul-2002; DatasheetDocument: Apr-1991; PackageDocument: Apr-1991; PackageReference: 6-173278-1; Publisher: Altium Limited; Orientation: Right Angle; ComponentLink1Description: Manufacturer Link; ComponentLink1URL: http://www.tycoelectronics.com/; ComponentLink2Description: Packaging Specification; ComponentLink2URL: http://ecommas.tycoelectronics.com/commerce/DocumentDelivery/DDEController?Action=showdoc&DocId=Customer+Drawing%7F173278%7FC%7Fpdf%7FEnglish%7FENG_CD_173278_C.pdf
footprint 6-173278-1 (Connector; D Subminiature 050 Series; 30 Position; Right Angle)
signal-integrity model D Subminiature
pins: 1, 2, 3, 4, 5, 6, 7, 8, 9, 10, 11, 12, 13, 14, 15, 16, 17, 18, 19, 20, 21, 22, 23, 24, 25, 26, 27, 28, 29, 30, 31 MH1, 32 MH2

## 6-173278-3
designator J?
Cap Assembly, (Horizontal without Leg) AMPLIMITE I B-to-B Connector; Positions: 50; Note: Series I; Gender: Plug Header; Note: Without Mating Lock; PCB_Layout: Complies with manufacturer's recommendation.; DrillSize: Corresponds to nominal value.; Published: 17-Jul-2002; DatasheetDocument: Apr-1991; PackageDocument: Apr-1991; PackageReference: 6-173278-3; Publisher: Altium Limited; Orientation: Right Angle; ComponentLink1Description: Manufacturer Link; ComponentLink1URL: http://www.tycoelectronics.com/; ComponentLink2Description: Packaging Specification; ComponentLink2URL: http://ecommas.tycoelectronics.com/commerce/DocumentDelivery/DDEController?Action=showdoc&DocId=Customer+Drawing%7F173278%7FC%7Fpdf%7FEnglish%7FENG_CD_173278_C.pdf
footprint 6-173278-3 (Connector; D Subminiature 050 Series; 50 Position; Right Angle)
signal-integrity model D Subminiature
pins: 1, 2, 3, 4, 5, 6, 7, 8, 9, 10, 11, 12, 13, 14, 15, 16, 17, 18, 19, 20, 21, 22, 23, 24, 25, 26, 27, 28, 29, 30, 31, 32, 33, 34, 35, 36, 37, 38, 39, 40, 41, 42, 43, 44, 45, 46, 47, 48, 49, 50, 51 MH1, 52 MH2

## 6-173278-4
designator J?
Cap Assembly, (Horizontal without Leg) AMPLIMITE I B-to-B Connector; Positions: 60; Note: Series I; Gender: Plug Header; Note: Without Mating Lock; PCB_Layout: Complies with manufacturer's recommendation.; DrillSize: Corresponds to nominal value.; Published: 17-Jul-2002; DatasheetDocument: Apr-1991; PackageDocument: Apr-1991; PackageReference: 6-173278-4; Publisher: Altium Limited; Orientation: Right Angle; ComponentLink1Description: Manufacturer Link; ComponentLink1URL: http://www.tycoelectronics.com/; ComponentLink2Description: Packaging Specification; ComponentLink2URL: http://ecommas.tycoelectronics.com/commerce/DocumentDelivery/DDEController?Action=showdoc&DocId=Customer+Drawing%7F173278%7FC%7Fpdf%7FEnglish%7FENG_CD_173278_C.pdf
footprint 6-173278-4 (Connector; D Subminiature 050 Series; 60 Position; Right Angle)
signal-integrity model D Subminiature
pins: 1, 2, 3, 4, 5, 6, 7, 8, 9, 10, 11, 12, 13, 14, 15, 16, 17, 18, 19, 20, 21, 22, 23, 24, 25, 26, 27, 28, 29, 30, 31, 32, 33, 34, 35, 36, 37, 38, 39, 40, 41, 42, 43, 44, 45, 46, 47, 48, 49, 50, 51, 52, 53, 54, 55, 56, 57, 58, 59, 60, 61 MH1, 62 MH2

## 6-173279-1
designator J?
Plug Assembly, (Vertical with Screw Hole) AMPLIMITE I B-to-B Connector; Positions: 30; Note: Series I; Gender: Receptacle Header; Note: Without Mating Lock; PCB_Layout: Complies with manufacturer's recommendation.; DrillSize: Corresponds to nominal value.; Published: 17-Jul-2002; DatasheetDocument: Apr-1991; PackageDocument: Apr-1991; PackageReference: 6-173279-1; Publisher: Altium Limited; Orientation: Vertical; ComponentLink1Description: Manufacturer Link; ComponentLink1URL: http://www.tycoelectronics.com/; ComponentLink2Description: Packaging Specification; ComponentLink2URL: http://ecommas.tycoelectronics.com/commerce/DocumentDelivery/DDEController?Action=showdoc&DocId=Customer+Drawing%7F173279%7FC%7Fpdf%7FEnglish%7FENG_CD_173279_C.pdf; ComponentLink3Description: Iges Model; ComponentLink3URL: http://catalog.tycoelectronics.com/TE/docs/cadgeo/8/72/30278.tar.gz
footprint 6-173279-1 (Connector; D Subminiature 050 Series; 30 Position; Vertical)
signal-integrity model D Subminiature
pins: 1, 2, 3, 4, 5, 6, 7, 8, 9, 10, 11, 12, 13, 14, 15, 16, 17, 18, 19, 20, 21, 22, 23, 24, 25, 26, 27, 28, 29, 30, 31 MH1, 32 MH2

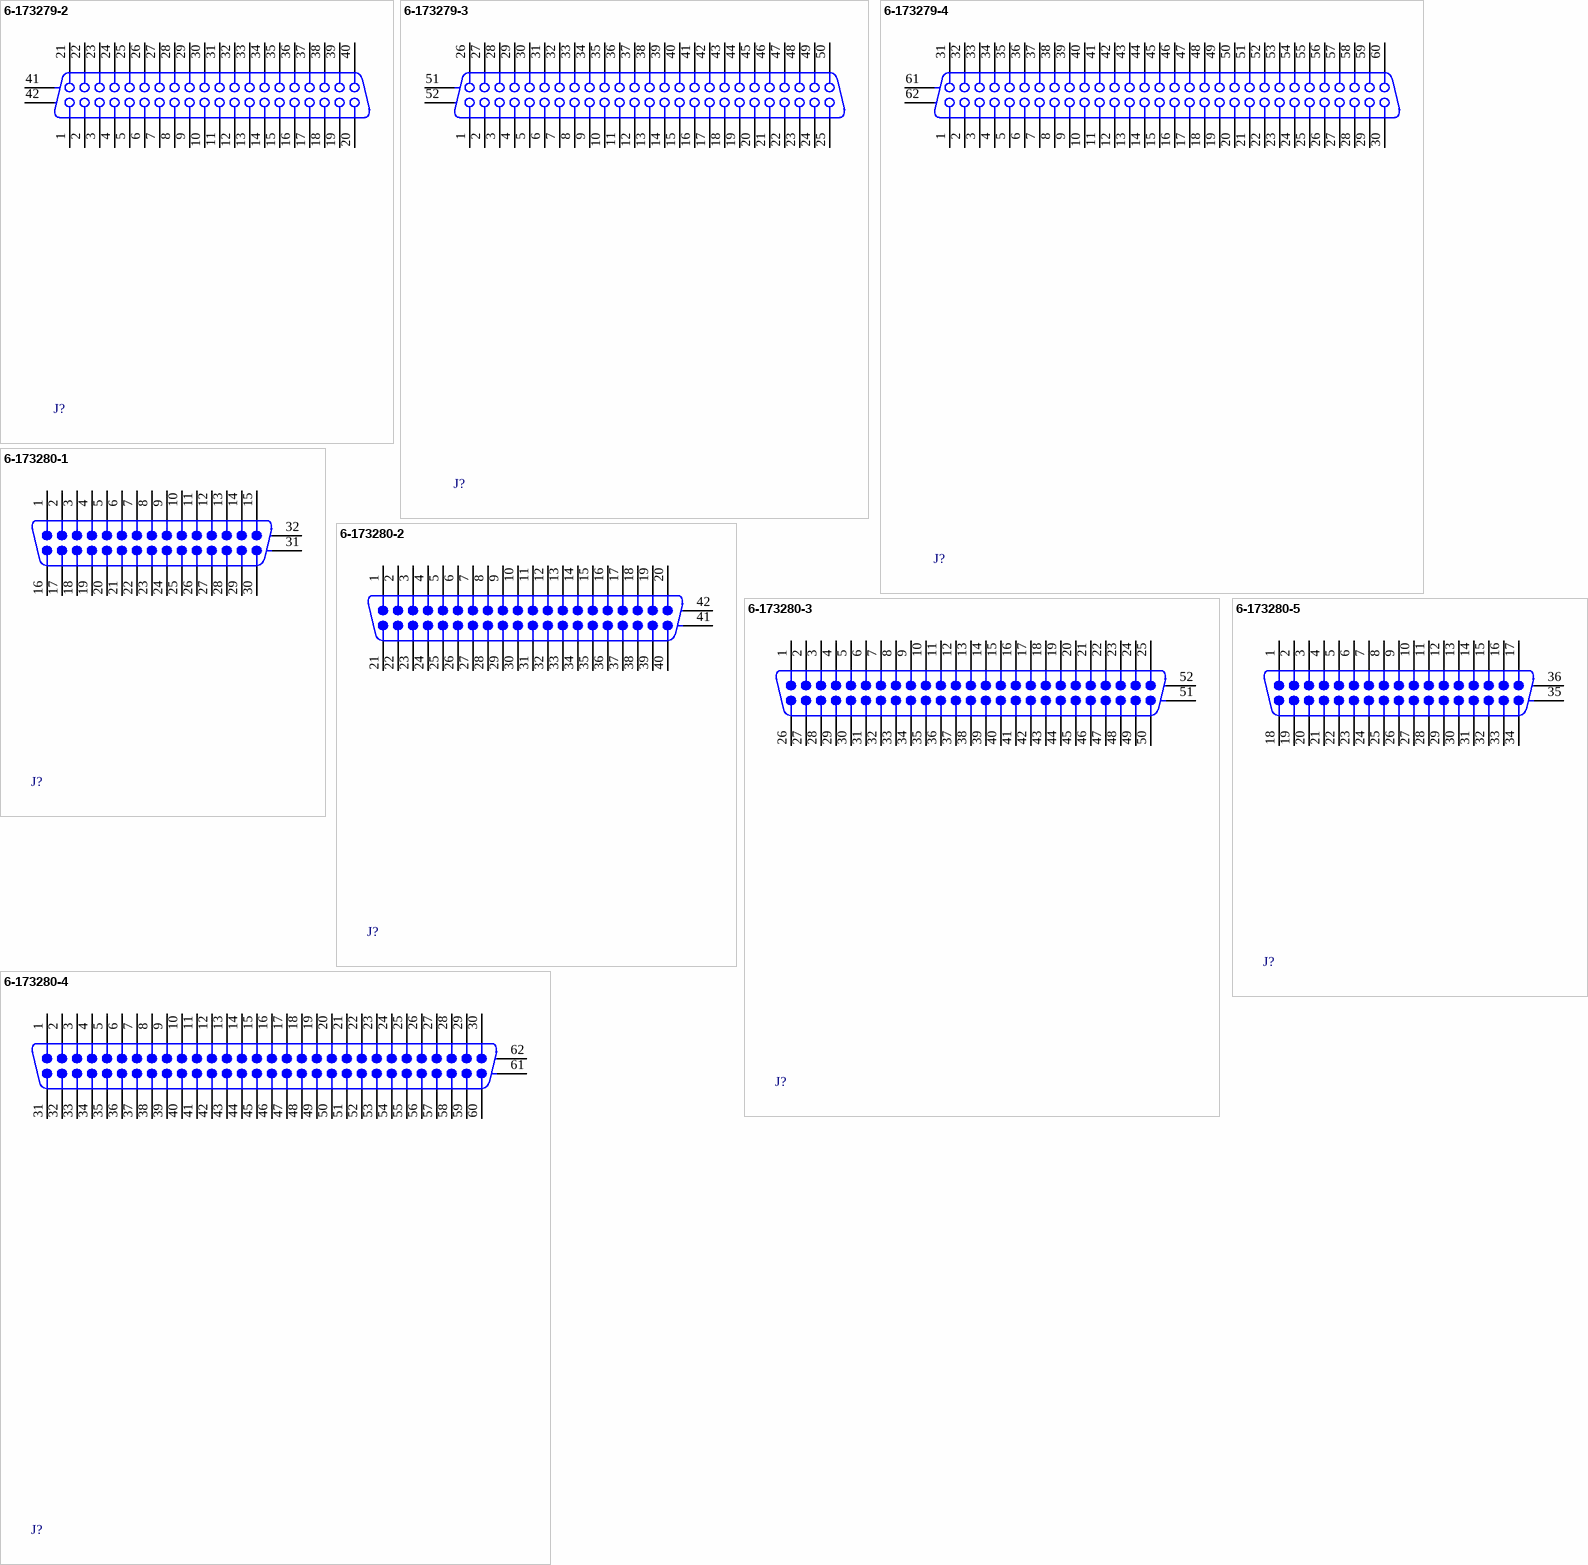
[diagram p3: symbols 6-173279-2 to 6-173280-5]

## 6-173279-2
designator J?
Plug Assembly, (Vertical with Screw Hole) AMPLIMITE I B-to-B Connector; Positions: 40; Note: Series I; Gender: Receptacle Header; Note: Without Mating Lock; PCB_Layout: Complies with manufacturer's recommendation.; DrillSize: Corresponds to nominal value.; Published: 17-Jul-2002; DatasheetDocument: Apr-1991; PackageDocument: Apr-1991; PackageReference: 6-173279-2; Publisher: Altium Limited; Orientation: Vertical; ComponentLink1Description: Manufacturer Link; ComponentLink1URL: http://www.tycoelectronics.com/; ComponentLink2Description: Packaging Specification; ComponentLink2URL: http://ecommas.tycoelectronics.com/commerce/DocumentDelivery/DDEController?Action=showdoc&DocId=Customer+Drawing%7F173279%7FC%7Fpdf%7FEnglish%7FENG_CD_173279_C.pdf; ComponentLink3Description: Iges Model; ComponentLink3URL: http://catalog.tycoelectronics.com/TE/docs/cadgeo/8/72/30278.tar.gz
footprint 6-173279-2 (Connector; D Subminiature 050 Series; 40 Position; Vertical)
signal-integrity model D Subminiature
pins: 1, 2, 3, 4, 5, 6, 7, 8, 9, 10, 11, 12, 13, 14, 15, 16, 17, 18, 19, 20, 21, 22, 23, 24, 25, 26, 27, 28, 29, 30, 31, 32, 33, 34, 35, 36, 37, 38, 39, 40, 41 MH1, 42 MH2

## 6-173279-3
designator J?
Plug Assembly, (Vertical with Screw Hole) AMPLIMITE I B-to-B Connector; Positions: 50; Note: Series I; Gender: Receptacle Header; Note: Without Mating Lock; PCB_Layout: Complies with manufacturer's recommendation.; DrillSize: Corresponds to nominal value.; Published: 17-Jul-2002; DatasheetDocument: Apr-1991; PackageDocument: Apr-1991; PackageReference: 6-173279-3; Publisher: Altium Limited; Orientation: Vertical; ComponentLink1Description: Manufacturer Link; ComponentLink1URL: http://www.tycoelectronics.com/; ComponentLink2Description: Packaging Specification; ComponentLink2URL: http://ecommas.tycoelectronics.com/commerce/DocumentDelivery/DDEController?Action=showdoc&DocId=Customer+Drawing%7F173279%7FC%7Fpdf%7FEnglish%7FENG_CD_173279_C.pdf; ComponentLink3Description: Iges Model; ComponentLink3URL: http://catalog.tycoelectronics.com/TE/docs/cadgeo/8/72/30278.tar.gz
footprint 6-173279-3 (Connector; D Subminiature 050 Series; 50 Position; Vertical)
signal-integrity model D Subminiature
pins: 1, 2, 3, 4, 5, 6, 7, 8, 9, 10, 11, 12, 13, 14, 15, 16, 17, 18, 19, 20, 21, 22, 23, 24, 25, 26, 27, 28, 29, 30, 31, 32, 33, 34, 35, 36, 37, 38, 39, 40, 41, 42, 43, 44, 45, 46, 47, 48, 49, 50, 51 MH1, 52 MH2

## 6-173279-4
designator J?
Plug Assembly, (Vertical with Screw Hole) AMPLIMITE I B-to-B Connector; Positions: 60; Note: Series I; Gender: Receptacle Header; Note: Without Mating Lock; PCB_Layout: Complies with manufacturer's recommendation.; DrillSize: Corresponds to nominal value.; Published: 17-Jul-2002; DatasheetDocument: Apr-1991; PackageDocument: Apr-1991; PackageReference: 6-173279-4; Publisher: Altium Limited; Orientation: Vertical; ComponentLink1Description: Manufacturer Link; ComponentLink1URL: http://www.tycoelectronics.com/; ComponentLink2Description: Packaging Specification; ComponentLink2URL: http://ecommas.tycoelectronics.com/commerce/DocumentDelivery/DDEController?Action=showdoc&DocId=Customer+Drawing%7F173279%7FC%7Fpdf%7FEnglish%7FENG_CD_173279_C.pdf; ComponentLink3Description: Iges Model; ComponentLink3URL: http://catalog.tycoelectronics.com/TE/docs/cadgeo/8/72/30278.tar.gz
footprint 6-173279-4 (Connector; D Subminiature 050 Series; 60 Position; Vertical)
signal-integrity model D Subminiature
pins: 1, 2, 3, 4, 5, 6, 7, 8, 9, 10, 11, 12, 13, 14, 15, 16, 17, 18, 19, 20, 21, 22, 23, 24, 25, 26, 27, 28, 29, 30, 31, 32, 33, 34, 35, 36, 37, 38, 39, 40, 41, 42, 43, 44, 45, 46, 47, 48, 49, 50, 51, 52, 53, 54, 55, 56, 57, 58, 59, 60, 61 MH1, 62 MH2

## 6-173280-1
designator J?
Cap Assembly, Vertical for AMPLIMITE I B-to-B Connector; Positions: 30; Note: Series I; Gender: Plug Header; Note: Without Mating Lock; PCB_Layout: Complies with manufacturer's recommendation.; DrillSize: Corresponds to nominal value.; Published: 17-Jul-2002; DatasheetDocument: Apr-1991; PackageDocument: Apr-1991; PackageReference: 6-173280-1; Publisher: Altium Limited; Orientation: Vertical; ComponentLink1Description: Manufacturer Link; ComponentLink1URL: http://www.tycoelectronics.com/; ComponentLink2Description: Packaging Specification; ComponentLink2URL: http://ecommas.tycoelectronics.com/commerce/DocumentDelivery/DDEController?Action=showdoc&DocId=Customer+Drawing%7F173280%7FG%7Fpdf%7FEnglish%7FENG_CD_173280_G.pdf; ComponentLink3Description: Iges Model; ComponentLink3URL: http://catalog.tycoelectronics.com/TE/docs/cadgeo/8/44/35448.tar.gz
footprint 6-173280-1 (Connector; D Subminiature 050 Series; 30 Position; Vertical)
signal-integrity model D Subminiature
pins: 1, 2, 3, 4, 5, 6, 7, 8, 9, 10, 11, 12, 13, 14, 15, 16, 17, 18, 19, 20, 21, 22, 23, 24, 25, 26, 27, 28, 29, 30, 31 MH1, 32 MH2

## 6-173280-2
designator J?
Cap Assembly, Vertical for AMPLIMITE I B-to-B Connector; Positions: 40; Note: Series I; Gender: Plug Header; Note: Without Mating Lock; PCB_Layout: Complies with manufacturer's recommendation.; DrillSize: Corresponds to nominal value.; Published: 17-Jul-2002; DatasheetDocument: Apr-1991; PackageDocument: Apr-1991; PackageReference: 6-173280-2; Publisher: Altium Limited; Orientation: Vertical; ComponentLink1Description: Manufacturer Link; ComponentLink1URL: http://www.tycoelectronics.com/; ComponentLink2Description: Packaging Specification; ComponentLink2URL: http://ecommas.tycoelectronics.com/commerce/DocumentDelivery/DDEController?Action=showdoc&DocId=Customer+Drawing%7F173280%7FG%7Fpdf%7FEnglish%7FENG_CD_173280_G.pdf; ComponentLink3Description: Iges Model; ComponentLink3URL: http://catalog.tycoelectronics.com/TE/docs/cadgeo/8/44/35448.tar.gz
footprint 6-173280-2 (Connector; D Subminiature 050 Series; 40 Position; Vertical)
signal-integrity model D Subminiature
pins: 1, 2, 3, 4, 5, 6, 7, 8, 9, 10, 11, 12, 13, 14, 15, 16, 17, 18, 19, 20, 21, 22, 23, 24, 25, 26, 27, 28, 29, 30, 31, 32, 33, 34, 35, 36, 37, 38, 39, 40, 41 MH1, 42 MH2

## 6-173280-3
designator J?
Cap Assembly, Vertical for AMPLIMITE I B-to-B Connector; Positions: 50; Note: Series I; Gender: Plug Header; Note: Without Mating Lock; PCB_Layout: Complies with manufacturer's recommendation.; DrillSize: Corresponds to nominal value.; Published: 17-Jul-2002; DatasheetDocument: Apr-1991; PackageDocument: Apr-1991; PackageReference: 6-173280-3; Publisher: Altium Limited; Orientation: Vertical; ComponentLink1Description: Manufacturer Link; ComponentLink1URL: http://www.tycoelectronics.com/; ComponentLink2Description: Packaging Specification; ComponentLink2URL: http://ecommas.tycoelectronics.com/commerce/DocumentDelivery/DDEController?Action=showdoc&DocId=Customer+Drawing%7F173280%7FG%7Fpdf%7FEnglish%7FENG_CD_173280_G.pdf; ComponentLink3Description: Iges Model; ComponentLink3URL: http://catalog.tycoelectronics.com/TE/docs/cadgeo/8/44/35448.tar.gz
footprint 6-173280-3 (Connector; D Subminiature 050 Series; 50 Position; Vertical)
signal-integrity model D Subminiature
pins: 1, 2, 3, 4, 5, 6, 7, 8, 9, 10, 11, 12, 13, 14, 15, 16, 17, 18, 19, 20, 21, 22, 23, 24, 25, 26, 27, 28, 29, 30, 31, 32, 33, 34, 35, 36, 37, 38, 39, 40, 41, 42, 43, 44, 45, 46, 47, 48, 49, 50, 51 MH1, 52 MH2

## 6-173280-4
designator J?
Cap Assembly, Vertical for AMPLIMITE I B-to-B Connector; Positions: 60; Note: Series I; Gender: Plug Header; Note: Without Mating Lock; PCB_Layout: Complies with manufacturer's recommendation.; DrillSize: Corresponds to nominal value.; Published: 17-Jul-2002; DatasheetDocument: Apr-1991; PackageDocument: Apr-1991; PackageReference: 6-173280-4; Publisher: Altium Limited; Orientation: Vertical; ComponentLink1Description: Manufacturer Link; ComponentLink1URL: http://www.tycoelectronics.com/; ComponentLink2Description: Packaging Specification; ComponentLink2URL: http://ecommas.tycoelectronics.com/commerce/DocumentDelivery/DDEController?Action=showdoc&DocId=Customer+Drawing%7F173280%7FG%7Fpdf%7FEnglish%7FENG_CD_173280_G.pdf; ComponentLink3Description: Iges Model; ComponentLink3URL: http://catalog.tycoelectronics.com/TE/docs/cadgeo/8/44/35448.tar.gz
footprint 6-173280-4 (Connector; D Subminiature 050 Series; 60 Position; Vertical)
signal-integrity model D Subminiature
pins: 1, 2, 3, 4, 5, 6, 7, 8, 9, 10, 11, 12, 13, 14, 15, 16, 17, 18, 19, 20, 21, 22, 23, 24, 25, 26, 27, 28, 29, 30, 31, 32, 33, 34, 35, 36, 37, 38, 39, 40, 41, 42, 43, 44, 45, 46, 47, 48, 49, 50, 51, 52, 53, 54, 55, 56, 57, 58, 59, 60, 61 MH1, 62 MH2

## 6-173280-5
designator J?
Cap Assembly, Vertical for AMPLIMITE I B-to-B Connector; Positions: 34; Note: Series I; Gender: Plug Header; Note: Without Mating Lock; PCB_Layout: Complies with manufacturer's recommendation.; DrillSize: Corresponds to nominal value.; Published: 17-Jul-2002; DatasheetDocument: Apr-1991; PackageDocument: Apr-1991; PackageReference: 6-173280-5; Publisher: Altium Limited; Orientation: Vertical; ComponentLink1Description: Manufacturer Link; ComponentLink1URL: http://www.tycoelectronics.com/; ComponentLink2Description: Packaging Specification; ComponentLink2URL: http://ecommas.tycoelectronics.com/commerce/DocumentDelivery/DDEController?Action=showdoc&DocId=Customer+Drawing%7F173280%7FG%7Fpdf%7FEnglish%7FENG_CD_173280_G.pdf; ComponentLink3Description: Iges Model; ComponentLink3URL: http://catalog.tycoelectronics.com/TE/docs/cadgeo/8/44/35448.tar.gz
footprint 6-173280-5 (Connector; D Subminiature 050 Series; 34 Position; Vertical)
signal-integrity model D Subminiature
pins: 1, 2, 3, 4, 5, 6, 7, 8, 9, 10, 11, 12, 13, 14, 15, 16, 17, 18, 19, 20, 21, 22, 23, 24, 25, 26, 27, 28, 29, 30, 31, 32, 33, 34, 35 MH1, 36 MH2

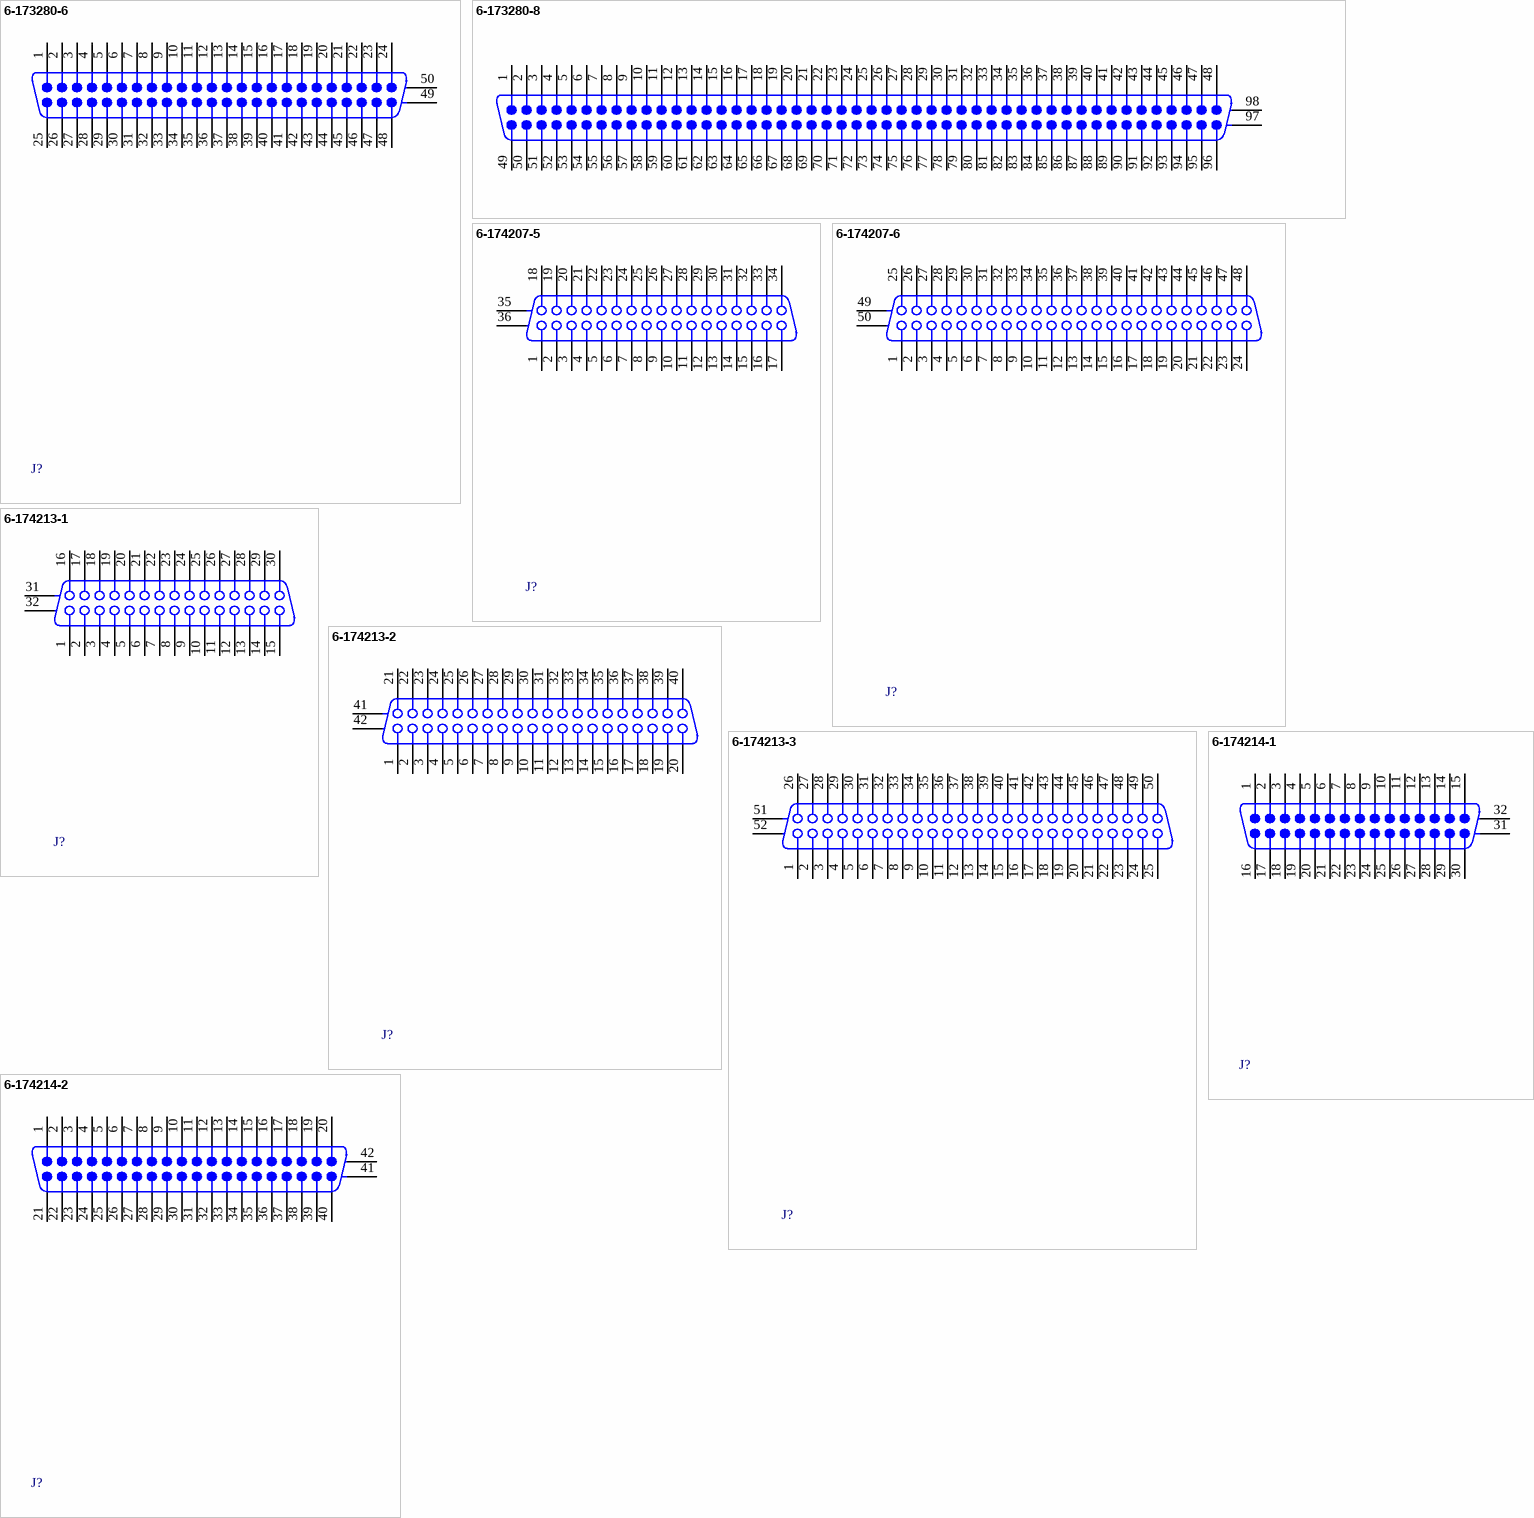
[diagram p4: symbols 6-173280-6 to 6-174214-2]

## 6-173280-6
designator J?
Cap Assembly, Vertical for AMPLIMITE I B-to-B Connector; Positions: 48; Note: Series I; Gender: Plug Header; Note: Without Mating Lock; PCB_Layout: Complies with manufacturer's recommendation.; DrillSize: Corresponds to nominal value.; Published: 17-Jul-2002; DatasheetDocument: Apr-1991; PackageDocument: Apr-1991; PackageReference: 6-173280-6; Publisher: Altium Limited; Orientation: Vertical; ComponentLink1Description: Manufacturer Link; ComponentLink1URL: http://www.tycoelectronics.com/; ComponentLink2Description: Packaging Specification; ComponentLink2URL: http://ecommas.tycoelectronics.com/commerce/DocumentDelivery/DDEController?Action=showdoc&DocId=Customer+Drawing%7F173280%7FG%7Fpdf%7FEnglish%7FENG_CD_173280_G.pdf; ComponentLink3Description: Iges Model; ComponentLink3URL: http://catalog.tycoelectronics.com/TE/docs/cadgeo/8/44/35448.tar.gz
footprint 6-173280-6 (Connector; D Subminiature 050 Series; 48 Position; Vertical)
signal-integrity model D Subminiature
pins: 1, 2, 3, 4, 5, 6, 7, 8, 9, 10, 11, 12, 13, 14, 15, 16, 17, 18, 19, 20, 21, 22, 23, 24, 25, 26, 27, 28, 29, 30, 31, 32, 33, 34, 35, 36, 37, 38, 39, 40, 41, 42, 43, 44, 45, 46, 47, 48, 49 MH1, 50 MH2

## 6-173280-8
designator J?
Cap Assembly, Vertical for AMPLIMITE I B-to-B Connector; Positions: 96; Note: Series I; Gender: Plug Header; Note: Without Mating Lock; PCB_Layout: Complies with manufacturer's recommendation.; DrillSize: Corresponds to nominal value.; Published: 17-Jul-2002; DatasheetDocument: Apr-1991; PackageDocument: Apr-1991; PackageReference: 6-173280-8; Publisher: Altium Limited; Orientation: Vertical; ComponentLink1Description: Manufacturer Link; ComponentLink1URL: http://www.tycoelectronics.com/; ComponentLink2Description: Packaging Specification; ComponentLink2URL: http://ecommas.tycoelectronics.com/commerce/DocumentDelivery/DDEController?Action=showdoc&DocId=Customer+Drawing%7F173280%7FG%7Fpdf%7FEnglish%7FENG_CD_173280_G.pdf; ComponentLink3Description: Iges Model; ComponentLink3URL: http://catalog.tycoelectronics.com/TE/docs/cadgeo/8/44/35448.tar.gz
footprint 6-173280-8 (Connector; D Subminiature 050 Series; 96 Position; Vertical)
signal-integrity model D Subminiature
pins: 1, 2, 3, 4, 5, 6, 7, 8, 9, 10, 11, 12, 13, 14, 15, 16, 17, 18, 19, 20, 21, 22, 23, 24, 25, 26, 27, 28, 29, 30, 31, 32, 33, 34, 35, 36, 37, 38, 39, 40, 41, 42, 43, 44, 45, 46, 47, 48, 49, 50, 51, 52, 53, 54, 55, 56, 57, 58, 59, 60, 61, 62, 63, 64, 65, 66, 67, 68, 69, 70, 71, 72, 73, 74, 75, 76, 77, 78, 79, 80, 81, 82, 83, 84, 85, 86, 87, 88, 89, 90, 91, 92, 93, 94, 95, 96, 97 MH1, 98 MH2

## 6-174207-5
designator J?
Plug Assembly, (Horizontal with Leg) AMPLIMITE I B-to-B Connector; Positions: 34; Note: Series I; Gender: Receptacle Header; Note: Without Mating Lock; PCB_Layout: Complies with manufacturer's recommendation.; DrillSize: Corresponds to nominal value.; Published: 17-Jul-2002; DatasheetDocument: Apr-1991; PackageDocument: Apr-1991; PackageReference: 6-174207-5; Publisher: Altium Limited; Orientation: Right Angle; ComponentLink1Description: Manufacturer Link; ComponentLink1URL: http://www.tycoelectronics.com/; ComponentLink2Description: Packaging Specification; ComponentLink2URL: http://ecommas.tycoelectronics.com/commerce/DocumentDelivery/DDEController?Action=showdoc&DocId=Customer+Drawing%7F174207%7FF%7Fpdf%7FEnglish%7FENG_CD_174207_F.pdf
footprint 6-174207-5 (Connector; D Subminiature 050 Series; 34 Position; Right Angle)
signal-integrity model D Subminiature
pins: 1, 2, 3, 4, 5, 6, 7, 8, 9, 10, 11, 12, 13, 14, 15, 16, 17, 18, 19, 20, 21, 22, 23, 24, 25, 26, 27, 28, 29, 30, 31, 32, 33, 34, 35 MH1, 36 MH2

## 6-174207-6
designator J?
Plug Assembly, (Horizontal with Leg) AMPLIMITE I B-to-B Connector; Positions: 48; Note: Series I; Gender: Receptacle Header; Note: Without Mating Lock; PCB_Layout: Complies with manufacturer's recommendation.; DrillSize: Corresponds to nominal value.; Published: 17-Jul-2002; DatasheetDocument: Apr-1991; PackageDocument: Apr-1991; PackageReference: 6-174207-6; Publisher: Altium Limited; Orientation: Right Angle; ComponentLink1Description: Manufacturer Link; ComponentLink1URL: http://www.tycoelectronics.com/; ComponentLink2Description: Packaging Specification; ComponentLink2URL: http://ecommas.tycoelectronics.com/commerce/DocumentDelivery/DDEController?Action=showdoc&DocId=Customer+Drawing%7F174207%7FF%7Fpdf%7FEnglish%7FENG_CD_174207_F.pdf
footprint 6-174207-6 (Connector; D Subminiature 050 Series; 48 Position; Right Angle)
signal-integrity model D Subminiature
pins: 1, 2, 3, 4, 5, 6, 7, 8, 9, 10, 11, 12, 13, 14, 15, 16, 17, 18, 19, 20, 21, 22, 23, 24, 25, 26, 27, 28, 29, 30, 31, 32, 33, 34, 35, 36, 37, 38, 39, 40, 41, 42, 43, 44, 45, 46, 47, 48, 49 MH1, 50 MH2